# EAGLE library part L293DD (library L293DD)
L293DD, Motor Driver, 4.5 36 V, 20-Pin SOIC Source: Datasheet <https://www.st.com/resource/en/datasheet/l293d.pdf>
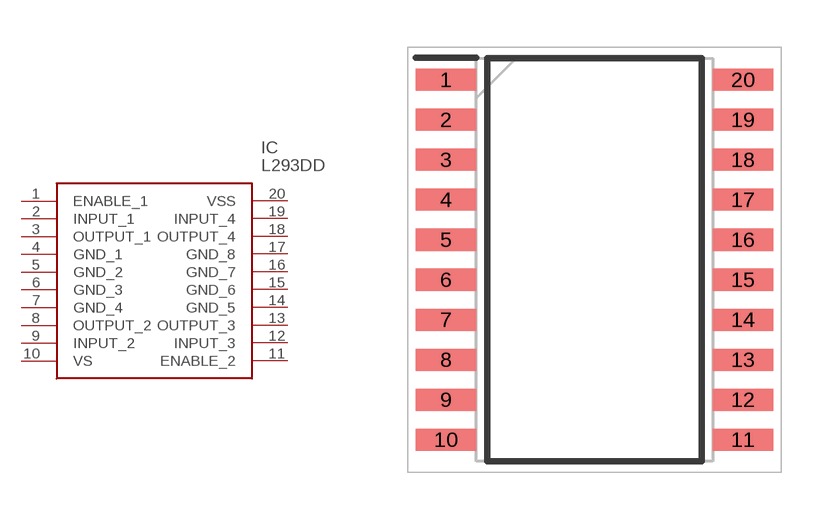
[diagram p0: symbol with the pads of SOIC127P1032X265-20N; footprint SOIC127P1032X265-20N]

Designator prefix IC

## L293DD (Arrow_Part_Number: L293DD; Arrow_Price-Stock: https://www.arrow.com/en/products/l293dd/stmicroelectronics; Description: L293DD, Motor Driver, 4.5 36 V, 20-Pin SOIC; Height: 2.65mm; Manufacturer_Name: STMicroelectronics; Manufacturer_Part_Number: L293DD; Mouser_Part_Number: 511-L293DD; Mouser_Price-Stock: https://www.mouser.co.uk/ProductDetail/STMicroelectronics/L293DD?qs=m4gxtLzGBzoksItTiSkcgg%3D%3D)  [SOIC127P1032X265-20N]
1  ENABLE_1
2  INPUT_1
3  OUTPUT_1
4  GND_1
5  GND_2
6  GND_3
7  GND_4
8  OUTPUT_2
9  INPUT_2
10  VS
11  ENABLE_2
12  INPUT_3
13  OUTPUT_3
14  GND_5
15  GND_6
16  GND_7
17  GND_8
18  OUTPUT_4
19  INPUT_4
20  VSS

## Footprint SOIC127P1032X265-20N (pad centres in mm)
SO20
smd 1.925 x 0.7: 1 -4.712,5.715; 2 -4.712,4.445; 3 -4.712,3.175; 4 -4.712,1.905; 5 -4.712,0.635; 6 -4.712,-0.635; 7 -4.712,-1.905; 8 -4.712,-3.175; 9 -4.712,-4.445; 10 -4.712,-5.715; 11 4.712,-5.715; 12 4.712,-4.445; 13 4.712,-3.175; 14 4.712,-1.905; 15 4.712,-0.635; 16 4.712,0.635; 17 4.712,1.905; 18 4.712,3.175; 19 4.712,4.445; 20 4.712,5.715